# Altium footprint library capacitors.PcbLib: 16 footprints
Each footprint in its own frame and in the unit in brackets; x right, y up, seen from the top. Pads: shape width x height; smd on the part's side, far side on the other; paste and mask are expansions set on the pad; w line width, h text height; cw(c..) or ccw(c..) is an arc to the next point about the centre after c.
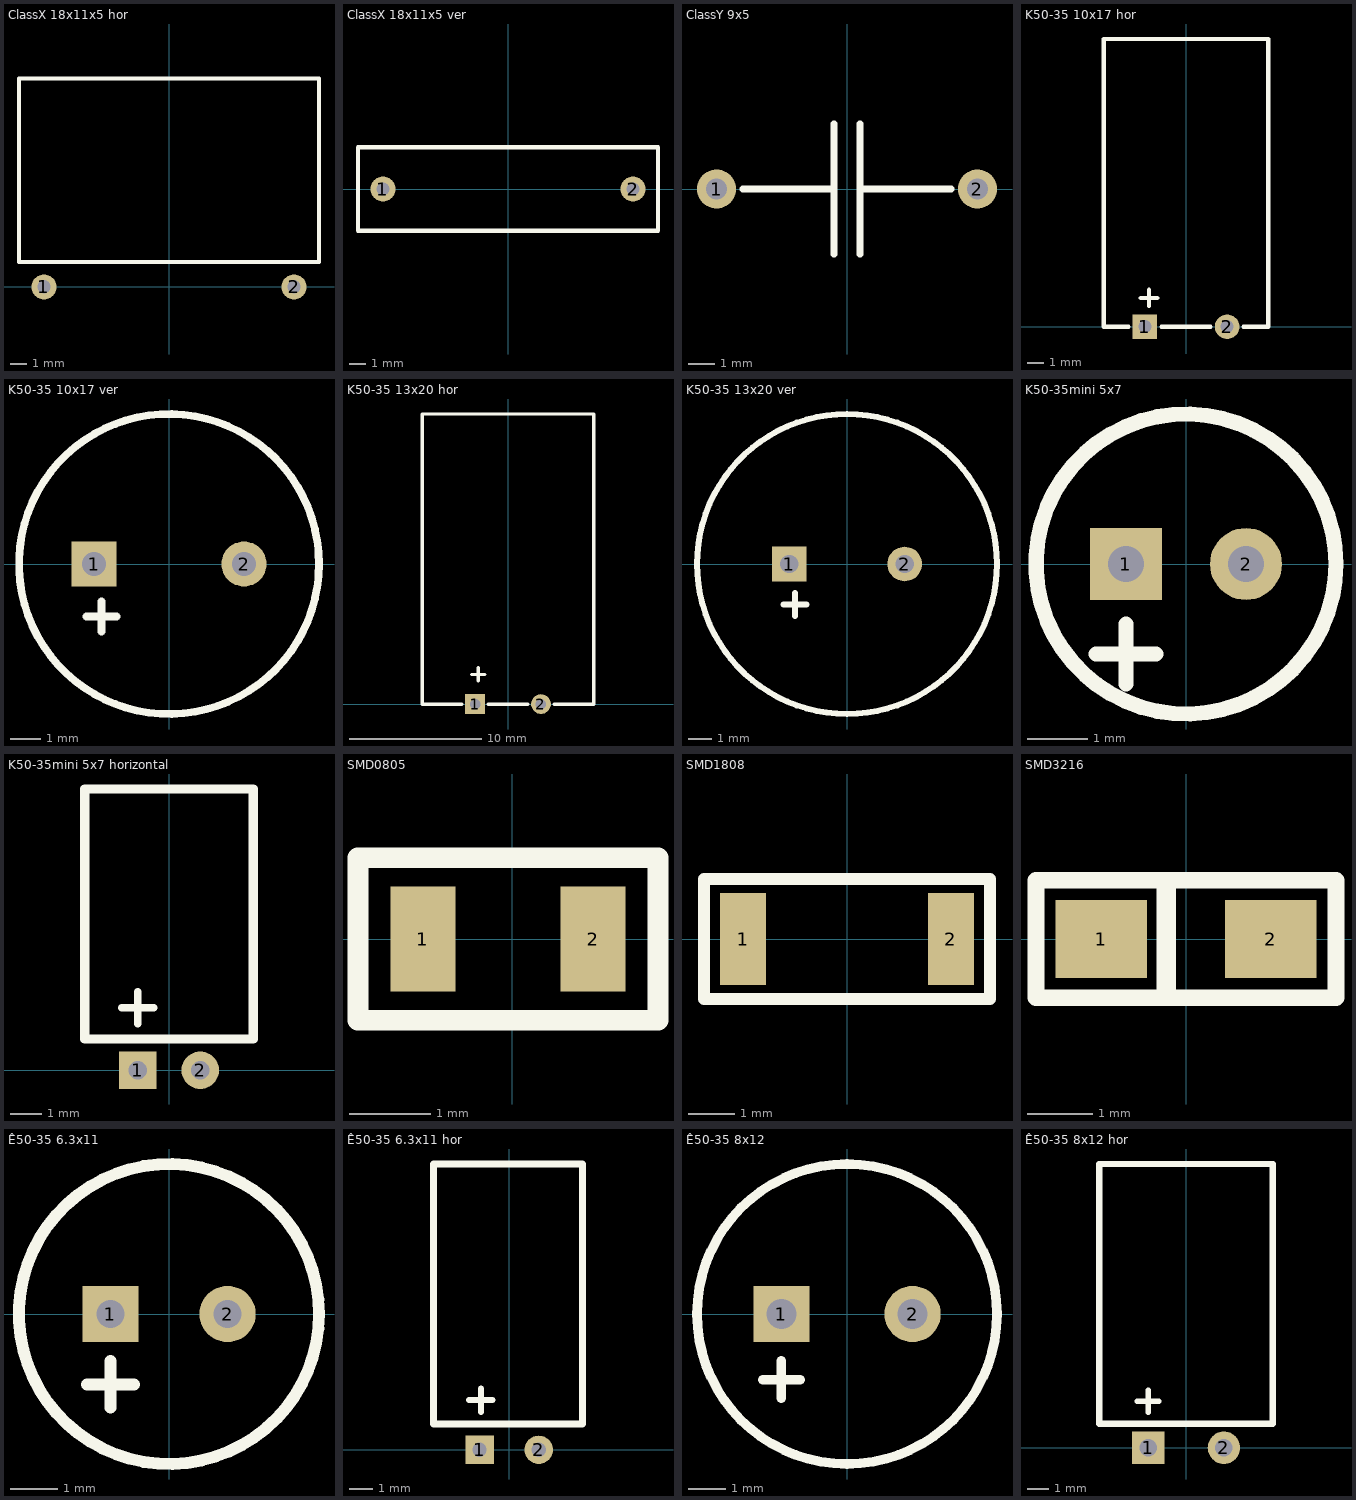
[diagram p0: the footprints below, top view; thin cyan lines are the x and y axes]

## ClassX 18x11x5 hor [mm] "ClassX Capacitor"
height 5
pads (2):
  round 1.5 hole 0.8: 1(-7.5,0) 2(7.5,0)
Top Overlay:
  lines w0.254: -9,1.5 -9,12.5 9,12.5 9,1.5 -9,1.5
3D body: height 12, standoff 0, extent -9,1.5 9,12.5

## ClassX 18x11x5 ver [mm] "ClassX Capacitor"
height 11
pads (2):
  round 1.5 hole 0.8: 1(-7.5,0) 2(7.5,0)
Top Overlay:
  lines w0.254: -9,-2.5 9,-2.5 9,2.5 -9,2.5 -9,-2.5
3D body: height 12, standoff 0, extent -8.999,-2.499 8.999,2.499

## ClassY 9x5 [mm] "ClassY Capacitor"
height 11
pads (2):
  round 1.5 hole 0.8: 1(-5,0) 2(5,0)
Top Overlay:
  lines w0.254: -4,0 -0.5,0 ; -0.5,-2.5 -0.5,2.5 ; 0.5,-2.5 0.5,2.5 ; 0.5,0 4,0

## K50-35 10x17 hor [mm] "Horizontal Electrolytic Capacitor"
height 11
pads (2):
  rect 1.5x1.5 hole 0.8: 1(-2.5,0)
  round 1.5 hole 0.8: 2(2.5,0)
Top Overlay:
  lines w0.254: -3.5,0 -5,0 -5,17.5 5,17.5 5,0 3.5,0 ; -2.75,1.75 -1.75,1.75 ; -2.25,1.25 -2.25,2.25 ; -1.5,0 1.5,0

## K50-35 10x17 ver [mm] "Vertical Electrolytic Capacitor"
height 18
pads (2):
  rect 1.5x1.5 hole 0.8: 1(-2.5,0)
  round 1.5 hole 0.8: 2(2.5,0)
Top Overlay:
  circle w0.254: c0,0 r5
  lines w0.254: -2.75,-1.75 -1.75,-1.75 ; -2.25,-2.25 -2.25,-1.25

## K50-35 13x20 hor [mm] "Horizontal THT Electrolytic Capacitor"
height 14
pads (2):
  rect 1.5x1.5 hole 0.8: 1(-2.5,0)
  round 1.5 hole 0.8: 2(2.5,0)
Top Overlay:
  lines w0.254: -3.5,0 -6.5,0 -6.5,22 6.5,22 6.5,0 3.5,0 ; -2.75,2.25 -1.75,2.25 ; -2.25,1.75 -2.25,2.75 ; -1.5,0 1.5,0

## K50-35 13x20 ver [mm] "Vertical THT Electrolytic Capacitor"
height 21
pads (2):
  rect 1.5x1.5 hole 0.8: 1(-2.5,0)
  round 1.5 hole 0.8: 2(2.5,0)
Top Overlay:
  circle w0.254: c0,0 r6.5
  lines w0.254: -2.75,-1.75 -1.75,-1.75 ; -2.25,-2.25 -2.25,-1.25

## K50-35mini 5x7 [mm] "Vertical THT Electrolytic Capacitor"
height 8
pads (2):
  rect 1.2x1.2 hole 0.6: 1(-1,0)
  round 1.2 hole 0.6: 2(1,0)
Top Overlay:
  circle w0.254: c0,0 r2.5
  lines w0.254: -1.5,-1.5 -0.5,-1.5 ; -1,-2 -1,-1

## K50-35mini 5x7 horizontal [mm] "Horizontal THT Electrolytic Capacitor"
height 5
pads (2):
  rect 1.2x1.2 hole 0.6: 1(-1,0)
  round 1.2 hole 0.6: 2(1,0)
Top Overlay:
  lines w0.254: -1.5,2 -0.5,2 ; -1,1.5 -1,2.5
  lines w0.3: -2.7,1 2.7,1 2.7,9 -2.7,9 -2.7,1

## SMD0805 [mm] "ceramic SMD capacitor"
height 2
pads (2):
  rect 0.8x1.3 smd: 1(-1.1,0) 2(1,0)
Top Overlay:
  lines w0.254: -1.9,-1 1.8,-1 1.8,1 -1.9,1 -1.9,-1

## SMD1808 [mm] "ceramic SMD capacitor"
height 2
pads (2):
  rect 1x2 smd: 1(-2.25,0) 2(2.25,0)
Top Overlay:
  lines w0.254: -3.1,-1.3 -3.1,1.3 3.1,1.3 3.1,-1.3 -3.1,-1.3

## SMD3216 [mm] "Tantalum"
height 1.6
pads (2):
  rect 1.4x1.2 smd: 1(-1.3,0) 2(1.3,0)
Top Overlay:
  lines w0.254: -2.3,-0.9 2.3,-0.9 2.3,0.9 -2.3,0.9 -2.3,-0.9
  lines w0.3: -0.3,-0.8 -0.3,0.8

## Ê50-35 6.3x11 [mm] "Vertical THT Electrolytic Capacitor"
height 12
pads (2):
  rect 1.2x1.2 hole 0.6: 1(-1.25,0)
  round 1.2 hole 0.6: 2(1.25,0)
Top Overlay:
  circle w0.254: c0,0 r3.2
  lines w0.254: -1.75,-1.5 -0.75,-1.5 ; -1.25,-2 -1.25,-1

## Ê50-35 6.3x11 hor [mm] "Horizontal THT Electrolytic Capacitor"
height 6.3
pads (2):
  rect 1.2x1.2 hole 0.6: 1(-1.25,0)
  round 1.2 hole 0.6: 2(1.25,0)
Top Overlay:
  lines w0.254: -1.7,2.1 -0.7,2.1 ; -1.2,1.6 -1.2,2.6
  lines w0.3: -3.2,1.1 3.1,1.1 3.1,12.1 -3.2,12.1 -3.2,1.1

## Ê50-35 8x12 [mm] "Vertical THT Electrolytic Capacitor"
height 13
pads (2):
  rect 1.5x1.5 hole 0.8: 1(-1.75,0)
  round 1.5 hole 0.8: 2(1.75,0)
Top Overlay:
  circle w0.254: c0,0 r4
  lines w0.254: -2.25,-1.75 -1.25,-1.75 ; -1.75,-2.25 -1.75,-1.25

## Ê50-35 8x12 hor [mm] "Horizontal THT Electrolytic Capacitor"
height 8
pads (2):
  rect 1.5x1.5 hole 0.8: 1(-1.75,0)
  round 1.5 hole 0.8: 2(1.75,0)
Top Overlay:
  lines w0.254: -2.25,2.15 -1.25,2.15 ; -1.75,1.65 -1.75,2.65
  lines w0.3: -4,1.1 -4,13.1 4,13.1 4,1.1 -4,1.1